# EAGLE library part MMA8652FCR1 (library chiptron_cz)
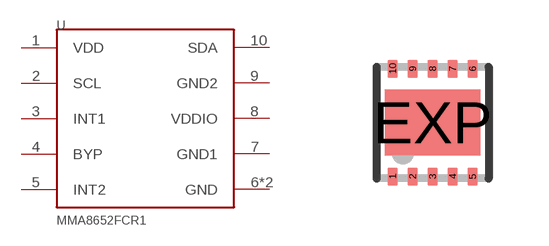
[diagram p7: symbol with the pads of DFN-10; footprint DFN-10]

Designator prefix -

## MMA8652FCR1  [DFN-10]
1  VDD
2  SCL
3  INT1
4  BYP
5  INT2
6  GND
7  GND1
8  VDDIO
9  GND2
10  SDA
EXP  GND

## Footprint DFN-10 (pad centres in mm)
smd 0.25 x 0.45: 1 -1,-1.35; 2 -0.5,-1.35; 3 0,-1.35; 4 0.5,-1.35; 5 1,-1.35; 6 1,1.35; 7 0.5,1.35; 8 0,1.35; 9 -0.5,1.35; 10 -1,1.35
smd 2.38 x 1.65: EXP 0,0